# EAGLE library part ?6B-ZR-SM4 (library con-jst)
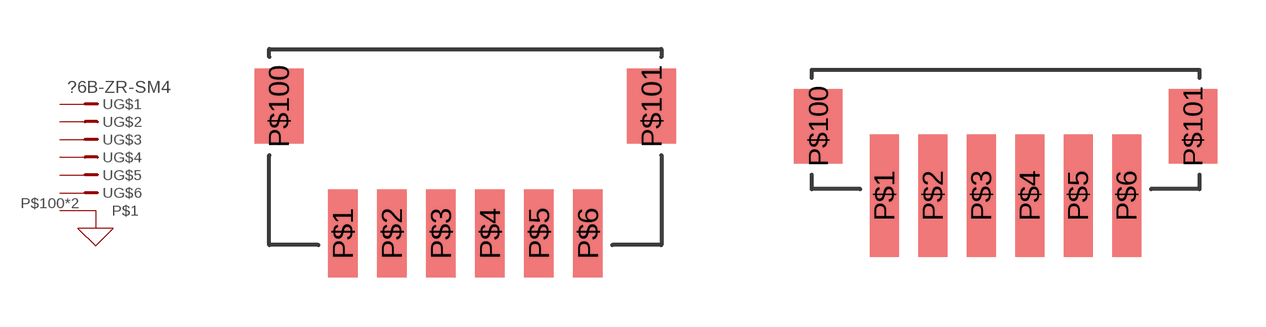
[diagram p23: symbol with the pads of S6B-ZR-SM4; footprints S6B-ZR-SM4, B6B-ZR-SM4]

Designator prefix -; gates G$1=PM-VN G$2=PM-N G$3=PM-N G$4=PM-N G$5=PM-N G$6=PM-N G$7=FRAME

## S6B-ZR-SM4  [S6B-ZR-SM4]
P$1  G$1:1  pas
P$2  G$2:1  pas
P$3  G$3:1  pas
P$4  G$4:1  pas
P$5  G$5:1  pas
P$6  G$6:1  pas
P$100  G$7:P$1
P$101  G$7:P$1

## B6B-ZR-SM4  [B6B-ZR-SM4]
Pads as for S6B-ZR-SM4

## Footprint S6B-ZR-SM4 (pad centres in mm)
smd 0.9 x 2.7: P$1 -3.75,-5.65; P$2 -2.25,-5.65; P$3 -0.75,-5.65; P$4 0.75,-5.65; P$5 2.25,-5.65; P$6 3.75,-5.65
smd 1.5 x 2.3: P$100 -5.7,-1.75; P$101 5.7,-1.75

## Footprint B6B-ZR-SM4 (pad centres in mm)
smd 0.9 x 3.8: P$1 -3.75,-3.9; P$2 -2.25,-3.9; P$3 -0.75,-3.9; P$4 0.75,-3.9; P$5 2.25,-3.9; P$6 3.75,-3.9
smd 1.5 x 2.3: P$100 -5.8,-1.75; P$101 5.8,-1.75